# Altium schematic symbol library SCH - OR CONTROLLER - TI LM74610QDGKRQ1.SCHLIB: 1 symbol
Pins are listed as number, name and electrical type; pins without a type are passive.

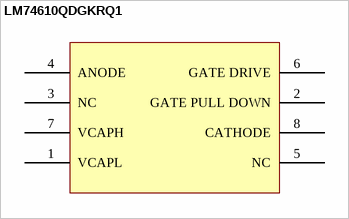
[diagram p0: symbol LM74610QDGKRQ1]

## LM74610QDGKRQ1
designator U?, comment Part Number: LM74610QDGKRQ1  (value not drawn)
No Description Available; Vendor: Texas Instruments; Built_By: Texas_Instrument_Team; CompType: IC; Manufacturer_Part_Number: LM74610QDGKRQ1; Copyright: Copyright (C) 2018 Accelerated Designs. All rights reserved; RefDes: RefDes; Type: DEV; Value: Value; Application_BuildNumber: *; PartNumber: LM74610QDGKRQ1; PackageReference: DGK0008A; MountType: SMT; Manufacturer: Texas Instruments
pins: 1 VCAPL, 2 GATE PULL DOWN, 3 NC, 4 ANODE (power), 5 NC, 6 GATE DRIVE, 7 VCAPH, 8 CATHODE